# Altium integrated library Cypress USB Full-Speed.IntLib: 14 symbols
Pins are listed as number, name and electrical type; pins without a type are passive.

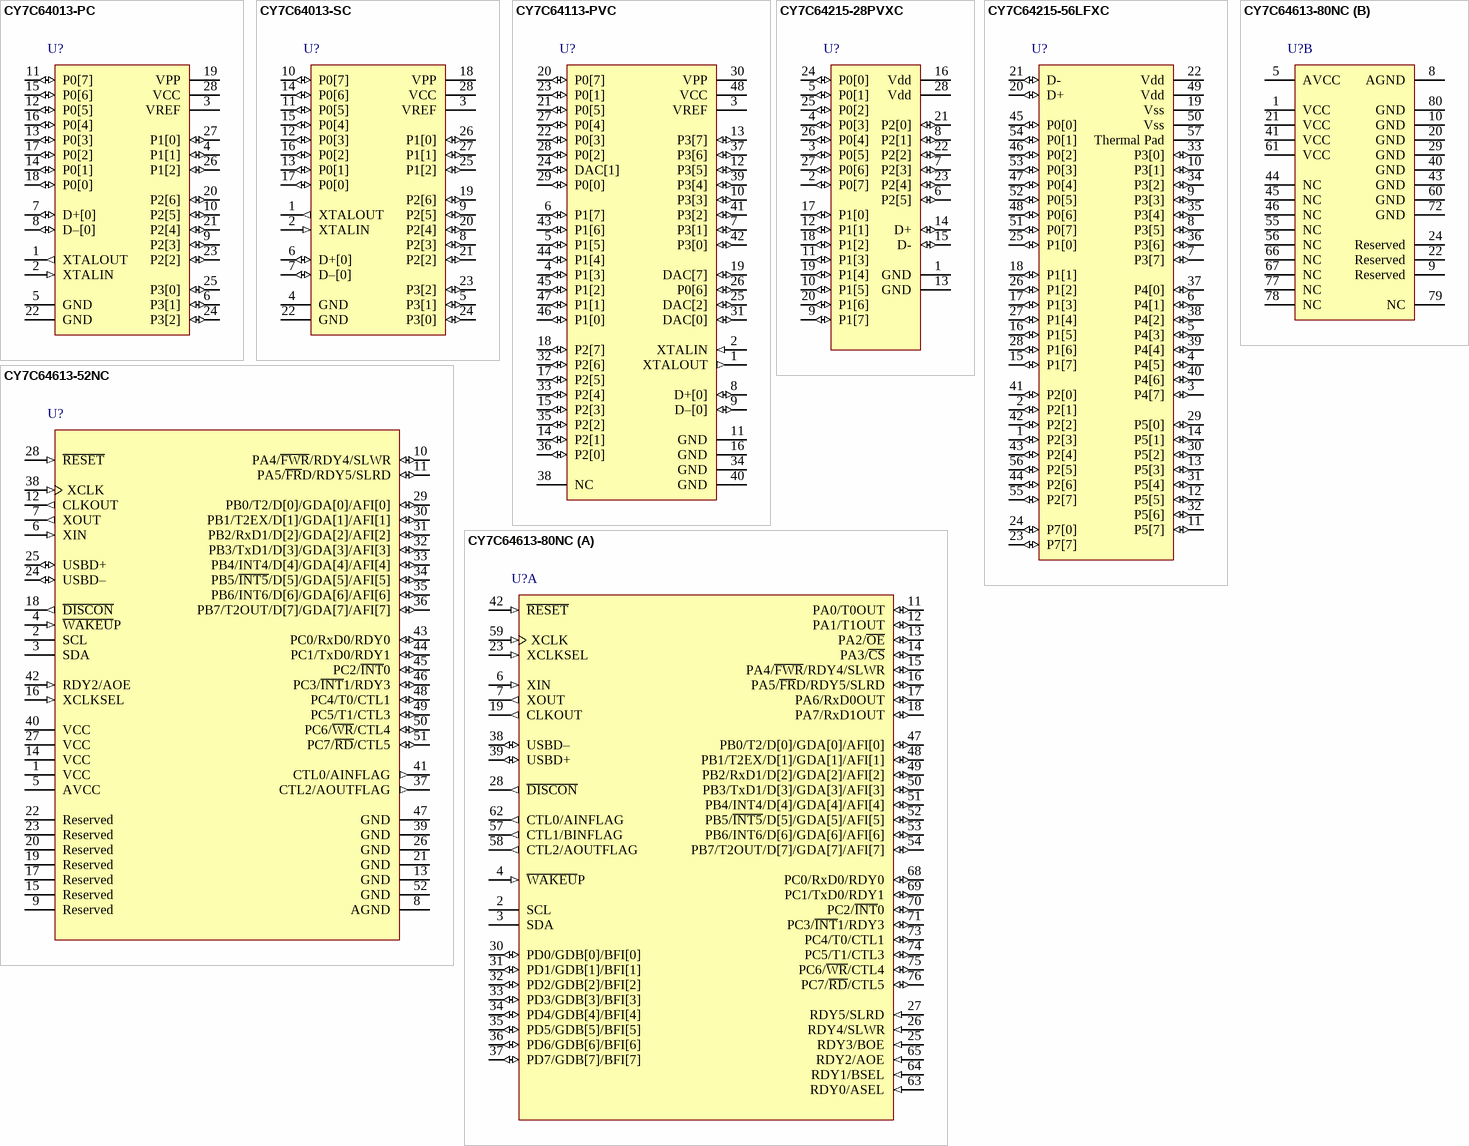
[diagram p0: symbols CY7C64013-PC to CY7C64613-80NC]

## CY7C64013-PC
designator U?
8-Bit One Time Programmable Microcontrollers for Full Speed USB, 8KB PROM, 28-Pin PDIP, Commercial Grade; Published: 16-Dec-2005; DatasheetVersion: rev.A, Jan-2004; PackageVersion: Jul-2000; PackageReference: P21; Publisher: Altium Limited; PackageDescription: DIP, Molded; 28 Leads; Row Spacing 7.62 mm; Pitch 2.54 mm; ComponentLink1Description: Manufacturer Link; ComponentLink1URL: http://www.cypress.com/portal/server.pt; ComponentLink2Description: Datasheet; ComponentLink2URL: http://www.cypress.com/portal/server.pt/gateway/PTARGS_0_2_1524_209_259_43/http%3B/sjapp20.mis.cypress.com%3B7001/publishedcontent/publish/design_resources/datasheets/contents/cy7c64013a_5.pdf
footprint P21 (DIP, Molded; 28 Leads; Row Spacing 7.62 mm; Pitch 2.54 mm)
pins: 1 XTALOUT (out), 2 XTALIN (in), 3 VREF (power), 4 P1[1] (io) "Port 1", 5 GND (power), 6 P3[1] (io) "Port 3", 7 D+[0] (io), 8 D–[0] (io), 9 P2[3] (io) "Port 2", 10 P2[5] (io) "Port 2", 11 P0[7] (io) "Port 0", 12 P0[5] (io) "Port 0", 13 P0[3] (io) "Port 0", 14 P0[1] (io) "Port 0", 15 P0[6] (io) "Port 0", 16 P0[4] (io) "Port 0", 17 P0[2] (io) "Port 0", 18 P0[0] (io) "Port 0", 19 VPP (power), 20 P2[6] (io) "Port 2", 21 P2[4] (io) "Port 2", 22 GND (power), 23 P2[2] (io) "Port 2", 24 P3[2] (io) "Port 3", 25 P3[0] (io) "Port 3", 26 P1[2] (io) "Port 1", 27 P1[0] (io) "Port 1", 28 VCC (power)

## CY7C64013-SC
designator U?
8-Bit One Time Programmable Microcontrollers for Full Speed USB, 8KB PROM, 28-Pin SOIC, Commercial Grade; Published: 16-Dec-2005; LatestRevisionDate: 13-Apr-2006; LatestRevisionNote: IPC-7351 Footprint Added.; DatasheetVersion: rev.A, Jan-2004; PackageVersion: Apr-1999; PackageReference: S21; Publisher: Altium Limited; PackageDescription: 28-Pin Molded Small Outline Integrated Circuit 1.27 mm Pitch; ComponentLink1Description: Manufacturer Link; ComponentLink1URL: http://www.cypress.com/portal/server.pt; ComponentLink2Description: Datasheet; ComponentLink2URL: http://www.cypress.com/portal/server.pt/gateway/PTARGS_0_2_1524_209_259_43/http%3B/sjapp20.mis.cypress.com%3B7001/publishedcontent/publish/design_resources/datasheets/contents/cy7c64013a_5.pdf
footprint S21_N (SOIC, 28-Leads, Body 17.9x7.5mm, Pitch 1.27mm, IPC Medium Density)
footprint S21_L (SOIC, 28-Leads, Body 17.9x7.5mm, Pitch 1.27mm, IPC High Density)
footprint S21_M (SOIC, 28-Leads, Body 17.9x7.5mm, Pitch 1.27mm, IPC Low Density)
pins: 1 XTALOUT (out), 2 XTALIN (in), 3 VREF (power), 4 GND (power), 5 P3[1] (io) "Port 3", 6 D+[0] (io), 7 D–[0] (io), 8 P2[3] (io) "Port 2", 9 P2[5] (io) "Port 2", 10 P0[7] (io) "Port 0", 11 P0[5] (io) "Port 0", 12 P0[3] (io) "Port 0", 13 P0[1] (io) "Port 0", 14 P0[6] (io) "Port 0", 15 P0[4] (io) "Port 0", 16 P0[2] (io) "Port 0", 17 P0[0] (io) "Port 0", 18 VPP (power), 19 P2[6] (io) "Port 2", 20 P2[4] (io) "Port 2", 21 P2[2] (io) "Port 2", 22 GND (power), 23 P3[2] (io) "Port 3", 24 P3[0] (io) "Port 3", 25 P1[2] (io) "Port 1", 26 P1[0] (io) "Port 1", 27 P1[1] (io) "Port 1", 28 VCC (power)

## CY7C64113-PVC
designator U?
8-Bit One Time Programmable Microcontrollers for Full Speed USB, 8KB PROM, 48-Pin SSOP, Commercial Grade; Published: 16-Dec-2005; DatasheetVersion: rev.A, Jan-2004; PackageVersion: Mar-2005; PackageReference: O48; Publisher: Altium Limited; PackageDescription: SSOP; 48 Leads; Body Width 7.5 mm; Pitch 0.635 mm; Code_JEDEC: MO-118-AA; Code_IPC: SSO48; ComponentLink1Description: Manufacturer Link; ComponentLink1URL: http://www.cypress.com/portal/server.pt; ComponentLink2Description: Datasheet; ComponentLink2URL: http://www.cypress.com/portal/server.pt/gateway/PTARGS_0_2_1524_209_259_43/http%3B/sjapp20.mis.cypress.com%3B7001/publishedcontent/publish/design_resources/datasheets/contents/cy7c64113a_5.pdf
footprint O48 (SSOP; 48 Leads; Body Width 7.5 mm; Pitch 0.635 mm)
pins: 1 XTALOUT (out), 2 XTALIN (in), 3 VREF (power), 4 P1[3] (io), 5 P1[5] (io), 6 P1[7] (io), 7 P3[1] (io), 8 D+[0] (io), 9 D–[0] (io), 10 P3[3] (io), 11 GND (power), 12 P3[5] (io), 13 P3[7] (io), 14 P2[1] (io), 15 P2[3] (io), 16 GND (power), 17 P2[5] (io), 18 P2[7] (io), 19 DAC[7] (io), 20 P0[7] (io), 21 P0[5] (io), 22 P0[3] (io), 23 P0[1] (io), 24 DAC[1] (io), 25 DAC[2] (io), 26 P0[6] (io), 27 P0[4] (io), 28 P0[2] (io), 29 P0[0] (io), 30 VPP (power), 31 DAC[0] (io), 32 P2[6] (io), 33 P2[4] (io), 34 GND (power), 35 P2[2] (io), 36 P2[0] (io), 37 P3[6] (io), 38 NC, 39 P3[4] (io), 40 GND (power), 41 P3[2] (io), 42 P3[0] (io), 43 P1[6] (io), 44 P1[4] (io), 45 P1[2] (io), 46 P1[0] (io), 47 P1[1] (io), 48 VCC (power)

## CY7C64215-28PVXC
designator U?
EnCoRe III Full Speed USB Controller, 1KB SRAM, 28-Pin SSOP; Published: 16-Dec-2005; DatasheetVersion: rev.A, Sep-2005; PackageVersion: Mar-2005; PackageReference: O28; Publisher: Altium Limited; PackageDescription: SSOP; 28 Leads; Body Width 5.3 mm; Pitch 0.65 mm; ComponentLink1Description: Manufacturer Link; ComponentLink1URL: http://www.cypress.com/portal/server.pt/gateway/PTARGS_0_2_1524_209_259_43/http%3B/sjapp20.mis.cypress.com%3B7001/publishedcontent/publish/design_resources/datasheets/contents/cy7c64215_5.pdf; ComponentLink2Description: Datasheet; ComponentLink2URL: http://www.cypress.com/portal/server.pt/gateway/PTARGS_0_2_1524_209_259_43/http%3B/sjapp20.mis.cypress.com%3B7001/publishedcontent/publish/design_resources/datasheets/contents/cy7c68013a_5.pdf
footprint O28 (SSOP; 28 Leads; Body Width 5.3 mm; Pitch 0.65 mm)
pins: 1 GND (power), 2 P0[7] (io), 3 P0[5] (io), 4 P0[3] (io), 5 P0[1] (io), 6 P2[5] (io), 7 P2[3] (io), 8 P2[1] (io), 9 P1[7] (io), 10 P1[5] (io), 11 P1[3] (io), 12 P1[1] (io), 13 GND (power), 14 D+ (io), 15 D- (io), 16 Vdd (power), 17 P1[0] (io), 18 P1[2] (io), 19 P1[4] (io), 20 P1[6] (io), 21 P2[0] (io), 22 P2[2] (io), 23 P2[4] (io), 24 P0[0] (io), 25 P0[2] (io), 26 P0[4] (io), 27 P0[6] (io), 28 Vdd (power)

## CY7C64215-56LFXC
designator U?
EnCoRe III Full Speed USB Controller, 1KB SRAM, 56-Pin MLF; Published: 16-Dec-2005; LatestRevisionDate: 13-Apr-2006; LatestRevisionNote: IPC-7351 Footprint Added.; DatasheetVersion: rev.A, Sep-2005; PackageVersion: Sep-2005; PackageReference: MLF56; Publisher: Altium Limited; PackageDescription: 56-Pin Punch Version Quad Flat No-Lead 0.5 mm Pitch; ComponentLink1Description: Manufacturer Link; ComponentLink1URL: http://www.cypress.com/portal/server.pt/gateway/PTARGS_0_2_1524_209_259_43/http%3B/sjapp20.mis.cypress.com%3B7001/publishedcontent/publish/design_resources/datasheets/contents/cy7c64215_5.pdf; ComponentLink2Description: Datasheet; ComponentLink2URL: http://www.cypress.com/portal/server.pt/gateway/PTARGS_0_2_1524_209_259_43/http%3B/sjapp20.mis.cypress.com%3B7001/publishedcontent/publish/design_resources/datasheets/contents/cy7c68016a_5.pdf
footprint MLF56_N (QFN, 56-Leads, Body 8x8mm, Pitch 0.5mm, IPC Medium Density)
footprint MLF56_L (QFN, 56-Leads, Body 8x8mm, Pitch 0.5mm, IPC High Density)
footprint MLF56_M (QFN, 56-Leads, Body 8x8mm, Pitch 0.5mm, IPC Low Density)
pins: 1 P2[3] (io), 2 P2[1] (io), 3 P4[7] (io), 4 P4[5] (io), 5 P4[3] (io), 6 P4[1] (io), 7 P3[7] (io), 8 P3[5] (io), 9 P3[3] (io), 10 P3[1] (io), 11 P5[7] (io), 12 P5[5] (io), 13 P5[3] (io), 14 P5[1] (io), 15 P1[7] (io), 16 P1[5] (io), 17 P1[3] (io), 18 P1[1] (io), 19 Vss (power), 20 D+ (io), 21 D- (io), 22 Vdd (power), 23 P7[7] (io), 24 P7[0] (io), 25 P1[0] (io), 26 P1[2] (io), 27 P1[4] (io), 28 P1[6] (io), 29 P5[0] (io), 30 P5[2] (io), 31 P5[4] (io), 32 P5[6] (io), 33 P3[0] (io), 34 P3[2] (io), 35 P3[4] (io), 36 P3[6] (io), 37 P4[0] (io), 38 P4[2] (io), 39 P4[4] (io), 40 P4[6] (io), 41 P2[0] (io), 42 P2[2] (io), 43 P2[4] (io), 44 P2[6] (io), 45 P0[0] (io), 46 P0[2] (io), 47 P0[4] (io), 48 P0[6] (io), 49 Vdd (power), 50 Vss (power), 51 P0[7] (io), 52 P0[5] (io), 53 P0[3] (io), 54 P0[1] (io), 55 P2[7] (io), 56 P2[5] (io), 57 Thermal Pad (power)

## CY7C64613-52NC
designator U?
EZ-USB FX USB Microcontroller, Isochronous Support, 8K RAM, 16 I/Os, 52-Pin PQFP; Published: 16-Dec-2005; LatestRevisionDate: 13-Apr-2006; LatestRevisionNote: IPC-7351 Footprint Added.; DatasheetVersion: rev.B, Apr-2003; PackageVersion: Mar-1997; PackageReference: N52; Publisher: Altium Limited; PackageDescription: 52-Pin Plastic Quad Flat Pack 0.65 mm Pitch; Code_IPC: QFP65P1320X1320-52; ComponentLink1Description: Manufacturer Link; ComponentLink1URL: http://www.cypress.com/portal/server.pt/gateway/PTARGS_0_2_1524_209_259_43/http%3B/sjapp20.mis.cypress.com%3B7001/publishedcontent/publish/design_resources/datasheets/contents/cy7c646xx_5.pdf; ComponentLink2Description: Datasheet; ComponentLink2URL: http://www.cypress.com/portal/server.pt/gateway/PTARGS_0_2_1524_209_259_43/http%3B/sjapp20.mis.cypress.com%3B7001/publishedcontent/publish/design_resources/datasheets/contents/cy7c68001_5.pdf
footprint N52_N (QFP, 52-Leads, Body 10 x 10mm, Pitch 0.65mm, IPC Medium Density)
footprint N52_L (QFP, 52-Leads, Body 10 x 10mm, Pitch 0.65mm, IPC High Density)
footprint N52_M (QFP, 52-Leads, Body 10 x 10mm, Pitch 0.65mm, IPC Low Density)
pins: 1 VCC (power), 2 SCL (oc), 3 SDA (oc), 4 ~{WAKEU}P (in), 5 AVCC (power), 6 XIN (in), 7 XOUT (out), 8 AGND (power), 9 Reserved, 10 PA4/~{FWR}/RDY4/SLWR (io), 11 PA5/~{FR}D/RDY5/SLRD (io), 12 CLKOUT (out), 13 GND (power), 14 VCC (power), 15 Reserved, 16 XCLKSEL (in), 17 Reserved, 18 ~{DISCON} (out), 19 Reserved, 20 Reserved, 21 GND (power), 22 Reserved, 23 Reserved, 24 USBD– (io), 25 USBD+ (io), 26 GND (power), 27 VCC (power), 28 ~{RESET} (in), 29 PB0/T2/D[0]/GDA[0]/AFI[0] (io), 30 PB1/T2EX/D[1]/GDA[1]/AFI[1] (io), 31 PB2/RxD1/D[2]/GDA[2]/AFI[2] (io), 32 PB3/TxD1/D[3]/GDA[3]/AFI[3] (io), 33 PB4/INT4/D[4]/GDA[4]/AFI[4] (io), 34 PB5/~{INT5}/D[5]/GDA[5]/AFI[5] (io), 35 PB6/INT6/D[6]/GDA[6]/AFI[6] (io), 36 PB7/T2OUT/D[7]/GDA[7]/AFI[7] (io), 37 CTL2/AOUTFLAG (out), 38 XCLK (in), 39 GND (power), 40 VCC (power), 41 CTL0/AINFLAG (out), 42 RDY2/AOE (in), 43 PC0/RxD0/RDY0 (io), 44 PC1/TxD0/RDY1 (io), 45 PC2/~{INT}0 (io), 46 PC3/~{INT}1/RDY3 (io), 47 GND (power), 48 PC4/T0/CTL1 (io), 49 PC5/T1/CTL3 (io), 50 PC6/~{WR}/CTL4 (io), 51 PC7/~{RD}/CTL5 (io), 52 GND (power)

## CY7C64613-80NC
designator U?
EZ-USB FX USB Microcontroller, Isochronous Support, 8K RAM, 32 I/Os, 80-Pin PQFP; Published: 16-Dec-2005; LatestRevisionDate: 13-Apr-2006; LatestRevisionNote: IPC-7351 Footprint Added.; DatasheetVersion: rev.B, Apr-2003; PackageVersion: Apr-2003; PackageReference: N80A; Publisher: Altium Limited; PackageDescription: 80-Pin Plastic Quad Flat Pack 0.65 mm Pitch; Code_JEDEC: MO-112-BF-1; ComponentLink1Description: Manufacturer Link; ComponentLink1URL: http://www.cypress.com/portal/server.pt/gateway/PTARGS_0_2_1524_209_259_43/http%3B/sjapp20.mis.cypress.com%3B7001/publishedcontent/publish/design_resources/datasheets/contents/cy7c646xx_5.pdf; ComponentLink2Description: Datasheet; ComponentLink2URL: http://www.cypress.com/portal/server.pt/gateway/PTARGS_0_2_1524_209_259_43/http%3B/sjapp20.mis.cypress.com%3B7001/publishedcontent/publish/design_resources/datasheets/contents/cy7c68014a_5.pdf
footprint N80A_N (QFP, 80-Leads, Body 14 x 14mm, Pitch 0.65mm, IPC Medium Density)
footprint N80A_L (QFP, 80-Leads, Body 14 x 14mm, Pitch 0.65mm, IPC High Density)
footprint N80A_M (QFP, 80-Leads, Body 14 x 14mm, Pitch 0.65mm, IPC Low Density)
part A pins: 2 SCL (oc), 3 SDA (oc), 4 ~{WAKEU}P (in), 6 XIN (in), 7 XOUT (out), 11 PA0/T0OUT (io), 12 PA1/T1OUT (io), 13 PA2/~{OE} (io), 14 PA3/~{CS} (io), 15 PA4/~{FW}~{R}/RDY4/SLWR (io), 16 PA5/~{FR}D/RDY5/SLRD (io), 17 PA6/RxD0OUT (io), 18 PA7/RxD1OUT (io), 19 CLKOUT (out), 23 XCLKSEL (in), 25 RDY3/BOE (in), 26 RDY4/SLWR (in), 27 RDY5/SLRD (in), 28 ~{DISCON} (out), 30 PD0/GDB[0]/BFI[0] (io), 31 PD1/GDB[1]/BFI[1] (io), 32 PD2/GDB[2]/BFI[2] (io), 33 PD3/GDB[3]/BFI[3] (io), 34 PD4/GDB[4]/BFI[4] (io), 35 PD5/GDB[5]/BFI[5] (io), 36 PD6/GDB[6]/BFI[6] (io), 37 PD7/GDB[7]/BFI[7] (io), 38 USBD– (io), 39 USBD+ (io), 42 ~{RESET} (in), 47 PB0/T2/D[0]/GDA[0]/AFI[0] (io), 48 PB1/T2EX/D[1]/GDA[1]/AFI[1] (io), 49 PB2/RxD1/D[2]/GDA[2]/AFI[2] (io), 50 PB3/TxD1/D[3]/GDA[3]/AFI[3] (io), 51 PB4/INT4/D[4]/GDA[4]/AFI[4] (io), 52 PB5/~{INT5}/D[5]/GDA[5]/AFI[5] (io), 53 PB6/INT6/D[6]/GDA[6]/AFI[6] (io), 54 PB7/T2OUT/D[7]/GDA[7]/AFI[7] (io), 57 CTL1/BINFLAG (out), 58 CTL2/AOUTFLAG (out), 59 XCLK (in), 62 CTL0/AINFLAG (out), 63 RDY0/ASEL (in), 64 RDY1/BSEL (in), 65 RDY2/AOE (in), 68 PC0/RxD0/RDY0 (io), 69 PC1/TxD0/RDY1 (io), 70 PC2/~{INT}0 (io), 71 PC3/~{INT}1/RDY3 (io), 73 PC4/T0/CTL1 (io), 74 PC5/T1/CTL3 (io), 75 PC6/~{WR}/CTL4 (io), 76 PC7/~{RD}/CTL5 (io)
part B pins: 1 VCC (power), 5 AVCC (power), 8 AGND (power), 9 Reserved, 10 GND (power), 20 GND (power), 21 VCC (power), 22 Reserved, 24 Reserved, 29 GND (power), 40 GND (power), 41 VCC (power), 43 GND (power), 44 NC, 45 NC, 46 NC, 55 NC, 56 NC, 60 GND (power), 61 VCC (power), 66 NC, 67 NC, 72 GND (power), 77 NC, 78 NC, 79 NC, 80 GND (power)

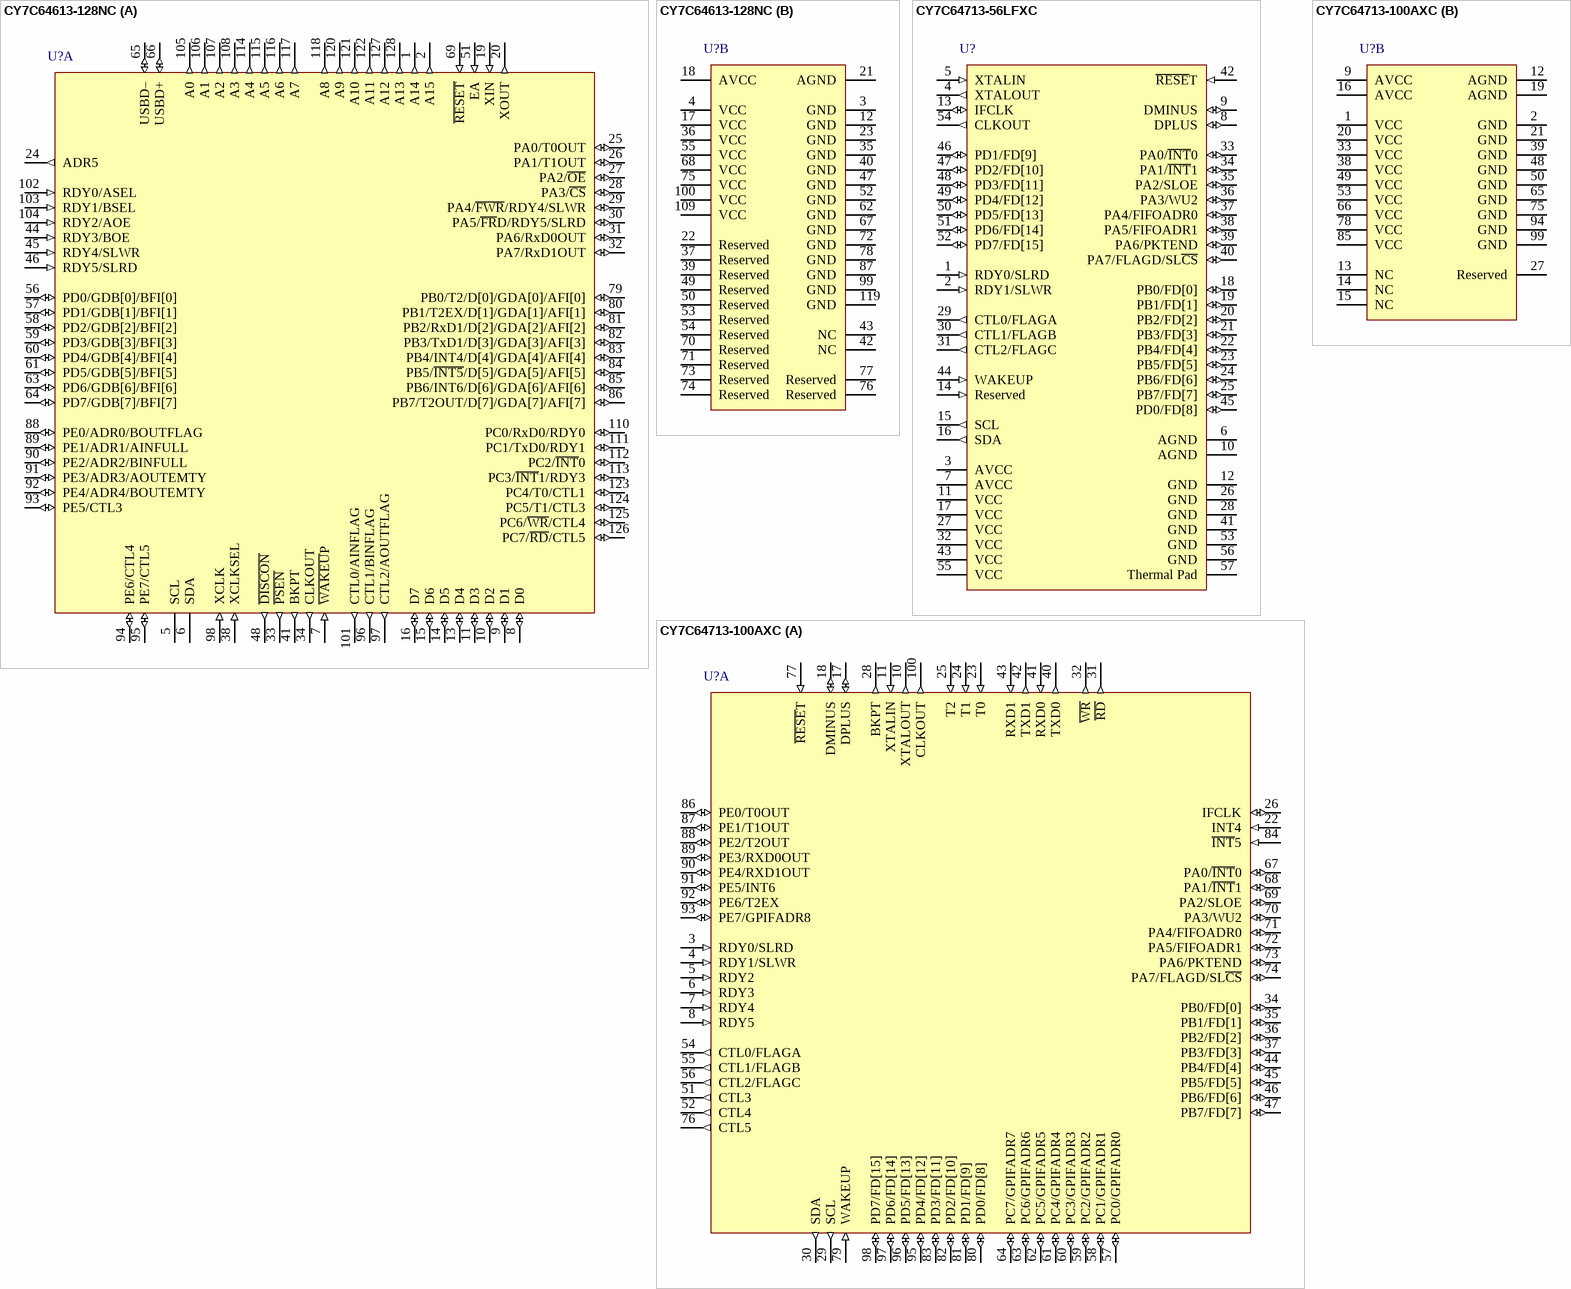
[diagram p1: symbols CY7C64613-128NC to CY7C64713-100AXC]

## CY7C64613-128NC
designator U?
EZ-USB FX USB Microcontroller, Isochronous Support, 8K RAM, 40 I/Os, 128-Pin PQFP; Published: 16-Dec-2005; LatestRevisionDate: 13-Apr-2006; LatestRevisionNote: IPC-7351 Footprint Added.; DatasheetVersion: rev.B, Apr-2003; PackageVersion: Jun-1997; PackageReference: N128; Publisher: Altium Limited; PackageDescription: 128-Pin Plastic Shrink Quad Flat Pack Rectangular 0.5 mm Pitch; ComponentLink1Description: Manufacturer Link; ComponentLink1URL: http://www.cypress.com/portal/server.pt/gateway/PTARGS_0_2_1524_209_259_43/http%3B/sjapp20.mis.cypress.com%3B7001/publishedcontent/publish/design_resources/datasheets/contents/cy7c646xx_5.pdf; ComponentLink2Description: Datasheet; ComponentLink2URL: http://www.cypress.com/portal/server.pt/gateway/PTARGS_0_2_1524_209_259_43/http%3B/sjapp20.mis.cypress.com%3B7001/publishedcontent/publish/design_resources/datasheets/contents/cy7c68014a_5.pdf
footprint N128_N (Shrink QFP, 128-Leads, Body 20x14 mm, Pitch 0.5mm, IPC Medium Density)
footprint N128_L (Shrink QFP, 128-Leads, Body 20x14 mm, Pitch 0.5mm, IPC High Density)
footprint N128_M (Shrink QFP, 128-Leads, Body 20x14 mm, Pitch 0.5mm, IPC Low Density)
part A pins: 1 A14 (out), 2 A15 (out), 5 SCL (oc), 6 SDA (oc), 7 ~{WAKEU}P (in), 8 D0 (io), 9 D1 (io), 10 D2 (io), 11 D3 (io), 13 D4 (io), 14 D5 (io), 15 D6 (io), 16 D7 (io), 19 XIN (in), 20 XOUT (out), 24 ADR5 (out), 25 PA0/T0OUT (io), 26 PA1/T1OUT (io) "Port A", 27 PA2/~{OE} (io) "Port A", 28 PA3/~{CS} (io) "Port A", 29 PA4/~{FWR}/RDY4/SLWR (io) "Port A", 30 PA5/~{FR}D/RDY5/SLRD (io) "Port A", 31 PA6/RxD0OUT (io) "Port A", 32 PA7/RxD1OUT (io) "Port A", 33 ~{PSEN} (out), 34 CLKOUT (out), 38 XCLKSEL (in), 41 BKPT (out), 44 RDY3/BOE (in), 45 RDY4/SLWR (in), 46 RDY5/SLRD (in), 48 ~{DISCON} (out), 51 EA (in), 56 PD0/GDB[0]/BFI[0] (io) "Port D", 57 PD1/GDB[1]/BFI[1] (io) "Port D", 58 PD2/GDB[2]/BFI[2] (io) "Port D", 59 PD3/GDB[3]/BFI[3] (io) "Port D", 60 PD4/GDB[4]/BFI[4] (io) "Port D", 61 PD5/GDB[5]/BFI[5] (io) "Port D", 63 PD6/GDB[6]/BFI[6] (io) "Port D", 64 PD7/GDB[7]/BFI[7] (io) "Port D", 65 USBD– (io), 66 USBD+ (io), 69 ~{RESET} (in), 79 PB0/T2/D[0]/GDA[0]/AFI[0] (io) "Port B", 80 PB1/T2EX/D[1]/GDA[1]/AFI[1] (io) "Port B", 81 PB2/RxD1/D[2]/GDA[2]/AFI[2] (io) "Port B", 82 PB3/TxD1/D[3]/GDA[3]/AFI[3] (io) "Port B", 83 PB4/INT4/D[4]/GDA[4]/AFI[4] (io) "Port B", 84 PB5/~{INT5}/D[5]/GDA[5]/AFI[5] (io) "Port B", 85 PB6/INT6/D[6]/GDA[6]/AFI[6] (io) "Port B", 86 PB7/T2OUT/D[7]/GDA[7]/AFI[7] (io) "Port B", 88 PE0/ADR0/BOUTFLAG (io) "Port E", 89 PE1/ADR1/AINFULL (io) "Port E", 90 PE2/ADR2/BINFULL (io) "Port E", 91 PE3/ADR3/AOUTEMTY (io) "Port E", 92 PE4/ADR4/BOUTEMTY (io) "Port E", 93 PE5/CTL3 (io) "Port E", 94 PE6/CTL4 (io) "Port E", 95 PE7/CTL5 (io) "Port E", 96 CTL1/BINFLAG (out), 97 CTL2/AOUTFLAG (out), 98 XCLK (in), 101 CTL0/AINFLAG (out), 102 RDY0/ASEL (in), 103 RDY1/BSEL (in), 104 RDY2/AOE (in), 105 A0 (out), 106 A1 (out), 107 A2 (out), 108 A3 (out), 110 PC0/RxD0/RDY0 (io) "Port C", 111 PC1/TxD0/RDY1 (io) "Port C", 112 PC2/~{INT}0 (io) "Port C", 113 PC3/~{INT}1/RDY3 (io) "Port C", 114 A4 (out), 115 A5 (out), 116 A6 (out), 117 A7 (out), 118 A8 (out), 120 A9 (out), 121 A10 (out), 122 A11 (out), 123 PC4/T0/CTL1 (io) "Port C", 124 PC5/T1/CTL3 (io) "Port C", 125 PC6/~{WR}/CTL4 (io) "Port C", 126 PC7/~{RD}/CTL5 (io) "Port C", 127 A12 (out), 128 A13 (out)
part B pins: 3 GND (power), 4 VCC (power), 12 GND (power), 17 VCC (power), 18 AVCC (power), 21 AGND (power), 22 Reserved, 23 GND (power), 35 GND (power), 36 VCC (power), 37 Reserved, 39 Reserved, 40 GND (power), 42 NC, 43 NC, 47 GND (power), 49 Reserved, 50 Reserved, 52 GND (power), 53 Reserved, 54 Reserved, 55 VCC (power), 62 GND (power), 67 GND (power), 68 VCC (power), 70 Reserved, 71 Reserved, 72 GND (power), 73 Reserved, 74 Reserved, 75 VCC (power), 76 Reserved, 77 Reserved, 78 GND (power), 87 GND (power), 99 GND (power), 100 VCC (power), 109 VCC (power), 119 GND (power)

## CY7C64713-56LFXC
designator U?
EZ-USB FX1 USB Microcontroller Ideal for Non-Battery Powered Application, 16K RAM, 24 I/Os, 56-Pin QFN, Pb-Free; Published: 16-Dec-2005; LatestRevisionDate: 13-Apr-2006; LatestRevisionNote: IPC-7351 Footprint Added.; DatasheetVersion: rev.C, Aug-2005; PackageVersion: May-2003; PackageReference: LF56A; Publisher: Altium Limited; PackageDescription: 56-Pin Punch Version Quad Flat No-Lead 0.5 mm Pitch; Code_JEDEC: MO-220; ComponentLink1Description: Manufacturer Link; ComponentLink1URL: http://www.cypress.com/portal/server.pt; ComponentLink2Description: Datasheet; ComponentLink2URL: http://www.cypress.com/portal/server.pt/gateway/PTARGS_0_2_1524_209_259_43/http%3B/sjapp20.mis.cypress.com%3B7001/publishedcontent/publish/design_resources/datasheets/contents/cy7c64713_5.pdf
footprint LF56A_N (QFN, 56-Leads, Body 8x8mm, Pitch 0.5mm, IPC Medium Density)
footprint LF56A_L (QFN, 56-Leads, Body 8x8mm, Pitch 0.5mm, IPC High Density)
footprint LF56A_M (QFN, 56-Leads, Body 8x8mm, Pitch 0.5mm, IPC Low Density)
pins: 1 RDY0/SLRD (in), 2 RDY1/SLWR (in), 3 AVCC (power), 4 XTALOUT (out), 5 XTALIN (in), 6 AGND (power), 7 AVCC (power), 8 DPLUS (io), 9 DMINUS (io), 10 AGND (power), 11 VCC (power), 12 GND (power), 13 IFCLK (io), 14 Reserved (in), 15 SCL (out), 16 SDA (out), 17 VCC (power), 18 PB0/FD[0] (io), 19 PB1/FD[1] (io), 20 PB2/FD[2] (io), 21 PB3/FD[3] (io), 22 PB4/FD[4] (io), 23 PB5/FD[5] (io), 24 PB6/FD[6] (io), 25 PB7/FD[7] (io), 26 GND (power), 27 VCC (power), 28 GND (power), 29 CTL0/FLAGA (out), 30 CTL1/FLAGB (out), 31 CTL2/FLAGC (out), 32 VCC (power), 33 PA0/~{INT}0 (io), 34 PA1/~{INT}1 (io), 35 PA2/SLOE (io), 36 PA3/WU2 (io), 37 PA4/FIFOADR0 (io), 38 PA5/FIFOADR1 (io), 39 PA6/PKTEND (io), 40 PA7/FLAGD/SL~{CS} (io), 41 GND (power), 42 ~{RESE}T (in), 43 VCC (power), 44 WAKEUP (in), 45 PD0/FD[8] (io), 46 PD1/FD[9] (io), 47 PD2/FD[10] (io), 48 PD3/FD[11] (io), 49 PD4/FD[12] (io), 50 PD5/FD[13] (io), 51 PD6/FD[14] (io), 52 PD7/FD[15] (io), 53 GND (power), 54 CLKOUT (out), 55 VCC (power), 56 GND (power), 57 Thermal Pad (power)

## CY7C64713-100AXC
designator U?
EZ-USB FX1 USB Microcontroller Ideal for Non-Battery Powered Application, 16K RAM, 40 I/Os, 100-Pin TQFP, Pb-Free; Published: 16-Dec-2005; LatestRevisionDate: 13-Apr-2006; LatestRevisionNote: IPC-7351 Footprint Added.; DatasheetVersion: rev.C, Aug-2005; PackageVersion: Feb-2005; PackageReference: A101; Publisher: Altium Limited; PackageDescription: 100-Pin Thin Plastic Quad Flat Pack Rectangular 0.65 mm Pitch; ComponentLink1Description: Manufacturer Link; ComponentLink1URL: http://www.cypress.com/portal/server.pt; ComponentLink2Description: Datasheet; ComponentLink2URL: http://www.cypress.com/portal/server.pt/gateway/PTARGS_0_2_1524_209_259_43/http%3B/sjapp20.mis.cypress.com%3B7001/publishedcontent/publish/design_resources/datasheets/contents/cy7c64713_5.pdf
footprint A101_N (Thin QFP, 100-Leads, Body 20x14mm, Pitch 0.65mm, IPC Medium Density)
footprint A101_L (Thin QFP, 100-Leads, Body 20x14mm, Pitch 0.65mm, IPC High Density)
footprint A101_M (Thin QFP, 100-Leads, Body 20x14mm, Pitch 0.65mm, IPC Low Density)
part A pins: 3 RDY0/SLRD (in), 4 RDY1/SLWR (in), 5 RDY2 (in), 6 RDY3 (in), 7 RDY4 (in), 8 RDY5 (in), 10 XTALOUT (out), 11 XTALIN (in), 17 DPLUS (io), 18 DMINUS (io), 22 INT4 (in), 23 T0 (in), 24 T1 (in), 25 T2 (in), 26 IFCLK (io), 28 BKPT (out), 29 SCL (out), 30 SDA (out), 31 ~{RD} (out), 32 ~{WR} (out), 34 PB0/FD[0] (io), 35 PB1/FD[1] (io), 36 PB2/FD[2] (io), 37 PB3/FD[3] (io), 40 TXD0 (out), 41 RXD0 (in), 42 TXD1 (out), 43 RXD1 (in), 44 PB4/FD[4] (io), 45 PB5/FD[5] (io), 46 PB6/FD[6] (io), 47 PB7/FD[7] (io), 51 CTL3 (out), 52 CTL4 (out), 54 CTL0/FLAGA (out), 55 CTL1/FLAGB (out), 56 CTL2/FLAGC (out), 57 PC0/GPIFADR0 (io), 58 PC1/GPIFADR1 (io), 59 PC2/GPIFADR2 (io), 60 PC3/GPIFADR3 (io), 61 PC4/GPIFADR4 (io), 62 PC5/GPIFADR5 (io), 63 PC6/GPIFADR6 (io), 64 PC7/GPIFADR7 (io), 67 PA0/~{INT}0 (io), 68 PA1/~{INT}1 (io), 69 PA2/SLOE (io), 70 PA3/WU2 (io), 71 PA4/FIFOADR0 (io), 72 PA5/FIFOADR1 (io), 73 PA6/PKTEND (io), 74 PA7/FLAGD/SL~{CS} (io), 76 CTL5 (out), 77 ~{RESE}T (in), 79 WAKEUP (in), 80 PD0/FD[8] (io), 81 PD1/FD[9] (io), 82 PD2/FD[10] (io), 83 PD3/FD[11] (io), 84 ~{INT}5 (in), 86 PE0/T0OUT (io), 87 PE1/T1OUT (io), 88 PE2/T2OUT (io), 89 PE3/RXD0OUT (io), 90 PE4/RXD1OUT (io), 91 PE5/INT6 (io), 92 PE6/T2EX (io), 93 PE7/GPIFADR8 (io), 95 PD4/FD[12] (io), 96 PD5/FD[13] (io), 97 PD6/FD[14] (io), 98 PD7/FD[15] (io), 100 CLKOUT (out)
part B pins: 1 VCC (power), 2 GND (power), 9 AVCC (power), 12 AGND (power), 13 NC, 14 NC, 15 NC, 16 AVCC (power), 19 AGND (power), 20 VCC (power), 21 GND (power), 27 Reserved, 33 VCC (power), 38 VCC (power), 39 GND (power), 48 GND (power), 49 VCC (power), 50 GND (power), 53 VCC (power), 65 GND (power), 66 VCC (power), 75 GND (power), 78 VCC (power), 85 VCC (power), 94 GND (power), 99 GND (power)

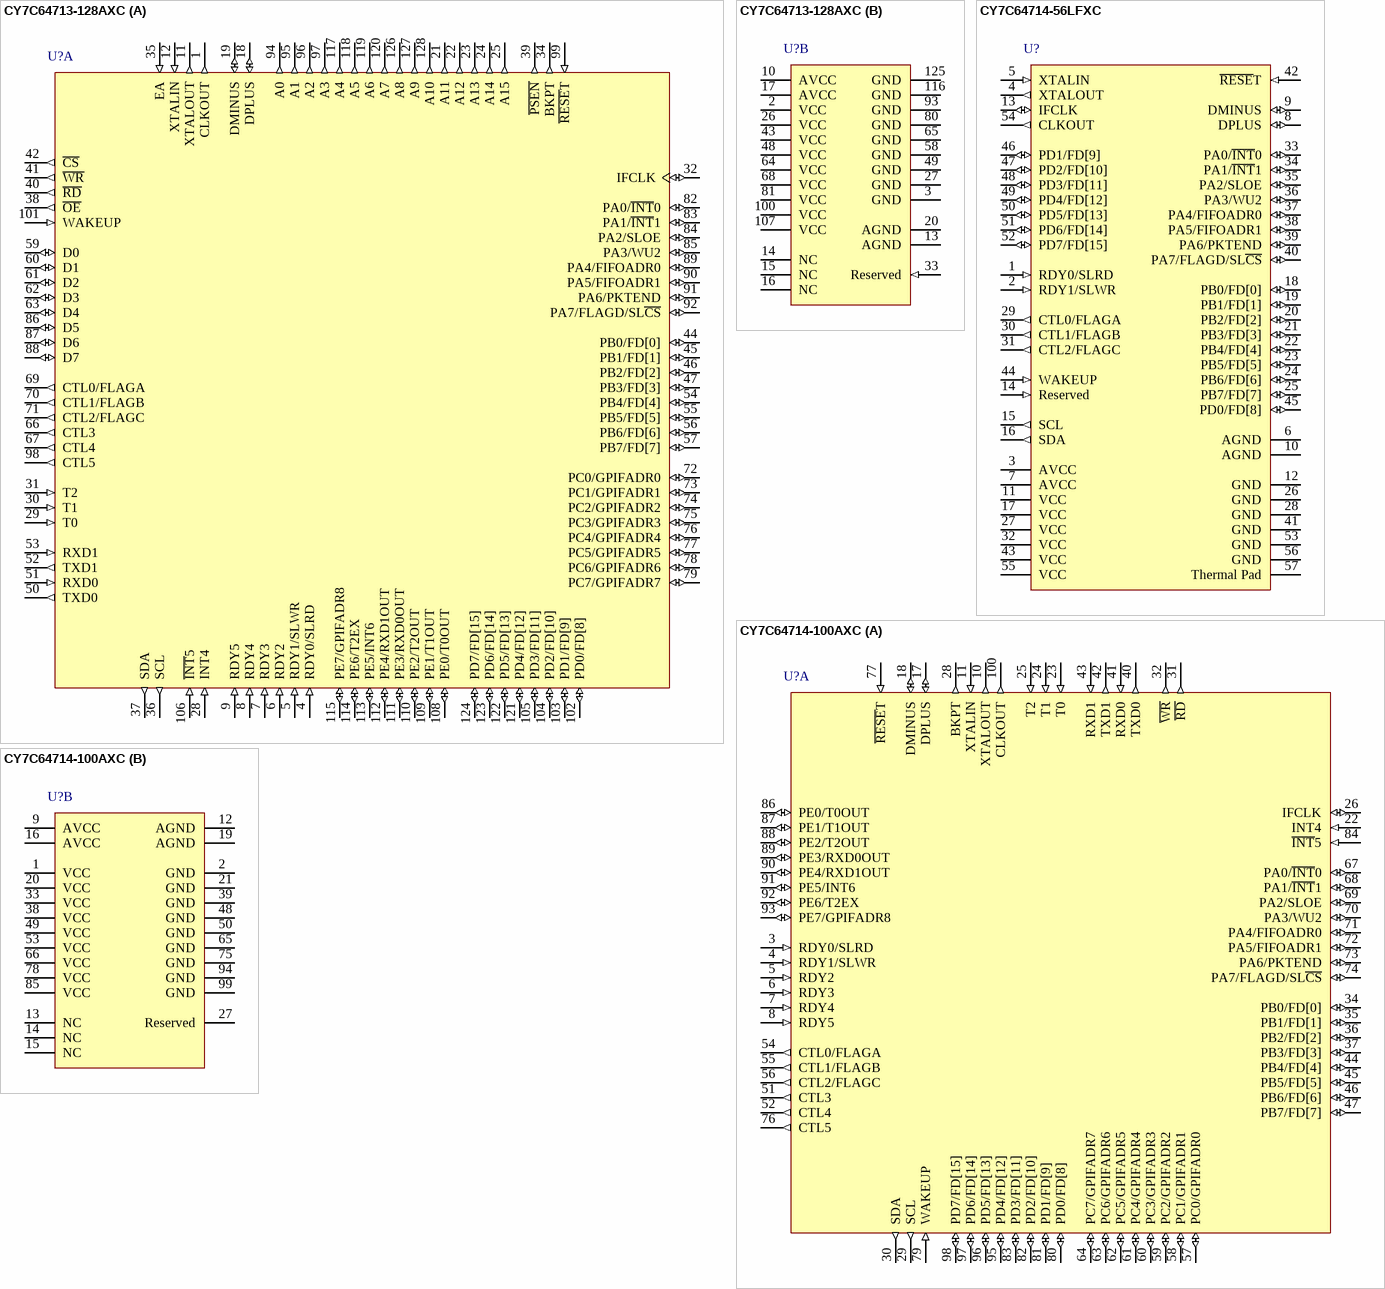
[diagram p2: symbols CY7C64713-128AXC to CY7C64714-100AXC]

## CY7C64713-128AXC
designator U?
EZ-USB FX1 USB Microcontroller Ideal for Non-Battery Powered Application, 16K RAM, 40 I/Os, 128-Pin TQFP, Pb-Free; Published: 16-Dec-2005; LatestRevisionDate: 13-Apr-2006; LatestRevisionNote: IPC-7351 Footprint Added.; DatasheetVersion: rev.C, Aug-2005; PackageVersion: Rev. *C, 19-Dec-2002; PackageReference: A128; Publisher: Altium Limited; PackageDescription: 128-Pin Thin Quad Flat Pack Rectangular 0.5 mm Pitch; ComponentLink1Description: Manufacturer Link; ComponentLink1URL: http://www.cypress.com/portal/server.pt; ComponentLink2Description: Datasheet; ComponentLink2URL: http://www.cypress.com/portal/server.pt/gateway/PTARGS_0_2_1524_209_259_43/http%3B/sjapp20.mis.cypress.com%3B7001/publishedcontent/publish/design_resources/datasheets/contents/cy7c64713_5.pdf
footprint A128_N (Thin QFP, 128-Leads, Body 20x14 mm, Pitch 0.5mm, IPC Medium Density)
footprint A128_L (Thin QFP, 128-Leads, Body 20x14 mm, Pitch 0.5mm, IPC High Density)
footprint A128_M (Thin QFP, 128-Leads, Body 20x14 mm, Pitch 0.5mm, IPC Low Density)
part A pins: 1 CLKOUT (out), 4 RDY0/SLRD (in), 5 RDY1/SLWR (in), 6 RDY2 (in), 7 RDY3 (in), 8 RDY4 (in), 9 RDY5 (in), 11 XTALOUT (out), 12 XTALIN (in), 18 DPLUS (io), 19 DMINUS (io), 21 A11 (out), 22 A12 (out), 23 A13 (out), 24 A14 (out), 25 A15 (out), 28 INT4 (in), 29 T0 (in), 30 T1 (in), 31 T2 (in), 32 IFCLK (io), 34 BKPT (out), 35 EA (in), 36 SCL (out), 37 SDA (out), 38 ~{OE} (out), 39 ~{PSEN} (out), 40 ~{RD} (out), 41 ~{WR} (out), 42 ~{CS} (out), 44 PB0/FD[0] (io), 45 PB1/FD[1] (io), 46 PB2/FD[2] (io), 47 PB3/FD[3] (io), 50 TXD0 (out), 51 RXD0 (in), 52 TXD1 (out), 53 RXD1 (in), 54 PB4/FD[4] (io), 55 PB5/FD[5] (io), 56 PB6/FD[6] (io), 57 PB7/FD[7] (io), 59 D0 (io), 60 D1 (io), 61 D2 (io), 62 D3 (io), 63 D4 (io), 66 CTL3 (out), 67 CTL4 (out), 69 CTL0/FLAGA (out), 70 CTL1/FLAGB (out), 71 CTL2/FLAGC (out), 72 PC0/GPIFADR0 (io), 73 PC1/GPIFADR1 (io), 74 PC2/GPIFADR2 (io), 75 PC3/GPIFADR3 (io), 76 PC4/GPIFADR4 (io), 77 PC5/GPIFADR5 (io), 78 PC6/GPIFADR6 (io), 79 PC7/GPIFADR7 (io), 82 PA0/~{INT}0 (io), 83 PA1/~{INT}1 (io), 84 PA2/SLOE (io), 85 PA3/WU2 (io), 86 D5 (io), 87 D6 (io), 88 D7 (io), 89 PA4/FIFOADR0 (io), 90 PA5/FIFOADR1 (io), 91 PA6/PKTEND (io), 92 PA7/FLAGD/SL~{CS} (io), 94 A0 (out), 95 A1 (out), 96 A2 (out), 97 A3 (out), 98 CTL5 (out), 99 ~{RESE}T (in), 101 WAKEUP (in), 102 PD0/FD[8] (io), 103 PD1/FD[9] (io), 104 PD2/FD[10] (io), 105 PD3/FD[11] (io), 106 ~{INT}5 (in), 108 PE0/T0OUT (io), 109 PE1/T1OUT (io), 110 PE2/T2OUT (io), 111 PE3/RXD0OUT (io), 112 PE4/RXD1OUT (io), 113 PE5/INT6 (io), 114 PE6/T2EX (io), 115 PE7/GPIFADR8 (io), 117 A4 (out), 118 A5 (out), 119 A6 (out), 120 A7 (out), 121 PD4/FD[12] (io), 122 PD5/FD[13] (io), 123 PD6/FD[14] (io), 124 PD7/FD[15] (io), 126 A8 (out), 127 A9 (out), 128 A10 (out)
part B pins: 2 VCC (power), 3 GND (power), 10 AVCC (power), 13 AGND (power), 14 NC, 15 NC, 16 NC, 17 AVCC (power), 20 AGND (power), 26 VCC (power), 27 GND (power), 33 Reserved (in), 43 VCC (power), 48 VCC (power), 49 GND (power), 58 GND (power), 64 VCC (power), 65 GND (power), 68 VCC (power), 80 GND (power), 81 VCC (power), 93 GND (power), 100 VCC (power), 107 VCC (power), 116 GND (power), 125 GND (power)

## CY7C64714-56LFXC
designator U?
EZ-USB FX1 USB Microcontroller Ideal for Battery Powered Application, 16K RAM, 24 I/Os, 56-Pin QFN, Pb-Free; Published: 16-Dec-2005; LatestRevisionDate: 13-Apr-2006; LatestRevisionNote: IPC-7351 Footprint Added.; DatasheetVersion: rev.C, Aug-2005; PackageVersion: May-2003; PackageReference: LF56A; Publisher: Altium Limited; PackageDescription: 56-Pin Punch Version Quad Flat No-Lead 0.5 mm Pitch; Code_JEDEC: MO-220; ComponentLink1Description: Manufacturer Link; ComponentLink1URL: http://www.cypress.com/portal/server.pt; ComponentLink2Description: Datasheet; ComponentLink2URL: http://www.cypress.com/portal/server.pt/gateway/PTARGS_0_2_1524_209_259_43/http%3B/sjapp20.mis.cypress.com%3B7001/publishedcontent/publish/design_resources/datasheets/contents/cy7c64713_5.pdf
footprint LF56A_N (QFN, 56-Leads, Body 8x8mm, Pitch 0.5mm, IPC Medium Density)
footprint LF56A_L (QFN, 56-Leads, Body 8x8mm, Pitch 0.5mm, IPC High Density)
footprint LF56A_M (QFN, 56-Leads, Body 8x8mm, Pitch 0.5mm, IPC Low Density)
pins: 1 RDY0/SLRD (in), 2 RDY1/SLWR (in), 3 AVCC (power), 4 XTALOUT (out), 5 XTALIN (in), 6 AGND (power), 7 AVCC (power), 8 DPLUS (io), 9 DMINUS (io), 10 AGND (power), 11 VCC (power), 12 GND (power), 13 IFCLK (io), 14 Reserved (in), 15 SCL (out), 16 SDA (out), 17 VCC (power), 18 PB0/FD[0] (io), 19 PB1/FD[1] (io), 20 PB2/FD[2] (io), 21 PB3/FD[3] (io), 22 PB4/FD[4] (io), 23 PB5/FD[5] (io), 24 PB6/FD[6] (io), 25 PB7/FD[7] (io), 26 GND (power), 27 VCC (power), 28 GND (power), 29 CTL0/FLAGA (out), 30 CTL1/FLAGB (out), 31 CTL2/FLAGC (out), 32 VCC (power), 33 PA0/~{INT}0 (io), 34 PA1/~{INT}1 (io), 35 PA2/SLOE (io), 36 PA3/WU2 (io), 37 PA4/FIFOADR0 (io), 38 PA5/FIFOADR1 (io), 39 PA6/PKTEND (io), 40 PA7/FLAGD/SL~{CS} (io), 41 GND (power), 42 ~{RESE}T (in), 43 VCC (power), 44 WAKEUP (in), 45 PD0/FD[8] (io), 46 PD1/FD[9] (io), 47 PD2/FD[10] (io), 48 PD3/FD[11] (io), 49 PD4/FD[12] (io), 50 PD5/FD[13] (io), 51 PD6/FD[14] (io), 52 PD7/FD[15] (io), 53 GND (power), 54 CLKOUT (out), 55 VCC (power), 56 GND (power), 57 Thermal Pad (power)

## CY7C64714-100AXC
designator U?
EZ-USB FX1 USB Microcontroller Ideal for Battery Powered Application, 16K RAM, 40 I/Os, 100-Pin TQFP, Pb-Free; Published: 16-Dec-2005; LatestRevisionDate: 13-Apr-2006; LatestRevisionNote: IPC-7351 Footprint Added.; DatasheetVersion: rev.C, Aug-2005; PackageVersion: Feb-2005; PackageReference: A101; Publisher: Altium Limited; PackageDescription: 100-Pin Thin Plastic Quad Flat Pack Rectangular 0.65 mm Pitch; ComponentLink1Description: Manufacturer Link; ComponentLink1URL: http://www.cypress.com/portal/server.pt; ComponentLink2Description: Datasheet; ComponentLink2URL: http://www.cypress.com/portal/server.pt/gateway/PTARGS_0_2_1524_209_259_43/http%3B/sjapp20.mis.cypress.com%3B7001/publishedcontent/publish/design_resources/datasheets/contents/cy7c64713_5.pdf
footprint A101_N (Thin QFP, 100-Leads, Body 20x14mm, Pitch 0.65mm, IPC Medium Density)
footprint A101_L (Thin QFP, 100-Leads, Body 20x14mm, Pitch 0.65mm, IPC High Density)
footprint A101_M (Thin QFP, 100-Leads, Body 20x14mm, Pitch 0.65mm, IPC Low Density)
part A pins: 3 RDY0/SLRD (in), 4 RDY1/SLWR (in), 5 RDY2 (in), 6 RDY3 (in), 7 RDY4 (in), 8 RDY5 (in), 10 XTALOUT (out), 11 XTALIN (in), 17 DPLUS (io), 18 DMINUS (io), 22 INT4 (in), 23 T0 (in), 24 T1 (in), 25 T2 (in), 26 IFCLK (io), 28 BKPT (out), 29 SCL (out), 30 SDA (out), 31 ~{RD} (out), 32 ~{WR} (out), 34 PB0/FD[0] (io), 35 PB1/FD[1] (io), 36 PB2/FD[2] (io), 37 PB3/FD[3] (io), 40 TXD0 (out), 41 RXD0 (in), 42 TXD1 (out), 43 RXD1 (in), 44 PB4/FD[4] (io), 45 PB5/FD[5] (io), 46 PB6/FD[6] (io), 47 PB7/FD[7] (io), 51 CTL3 (out), 52 CTL4 (out), 54 CTL0/FLAGA (out), 55 CTL1/FLAGB (out), 56 CTL2/FLAGC (out), 57 PC0/GPIFADR0 (io), 58 PC1/GPIFADR1 (io), 59 PC2/GPIFADR2 (io), 60 PC3/GPIFADR3 (io), 61 PC4/GPIFADR4 (io), 62 PC5/GPIFADR5 (io), 63 PC6/GPIFADR6 (io), 64 PC7/GPIFADR7 (io), 67 PA0/~{INT}0 (io), 68 PA1/~{INT}1 (io), 69 PA2/SLOE (io), 70 PA3/WU2 (io), 71 PA4/FIFOADR0 (io), 72 PA5/FIFOADR1 (io), 73 PA6/PKTEND (io), 74 PA7/FLAGD/SL~{CS} (io), 76 CTL5 (out), 77 ~{RESE}T (in), 79 WAKEUP (in), 80 PD0/FD[8] (io), 81 PD1/FD[9] (io), 82 PD2/FD[10] (io), 83 PD3/FD[11] (io), 84 ~{INT}5 (in), 86 PE0/T0OUT (io), 87 PE1/T1OUT (io), 88 PE2/T2OUT (io), 89 PE3/RXD0OUT (io), 90 PE4/RXD1OUT (io), 91 PE5/INT6 (io), 92 PE6/T2EX (io), 93 PE7/GPIFADR8 (io), 95 PD4/FD[12] (io), 96 PD5/FD[13] (io), 97 PD6/FD[14] (io), 98 PD7/FD[15] (io), 100 CLKOUT (out)
part B pins: 1 VCC (power), 2 GND (power), 9 AVCC (power), 12 AGND (power), 13 NC, 14 NC, 15 NC, 16 AVCC (power), 19 AGND (power), 20 VCC (power), 21 GND (power), 27 Reserved, 33 VCC (power), 38 VCC (power), 39 GND (power), 48 GND (power), 49 VCC (power), 50 GND (power), 53 VCC (power), 65 GND (power), 66 VCC (power), 75 GND (power), 78 VCC (power), 85 VCC (power), 94 GND (power), 99 GND (power)

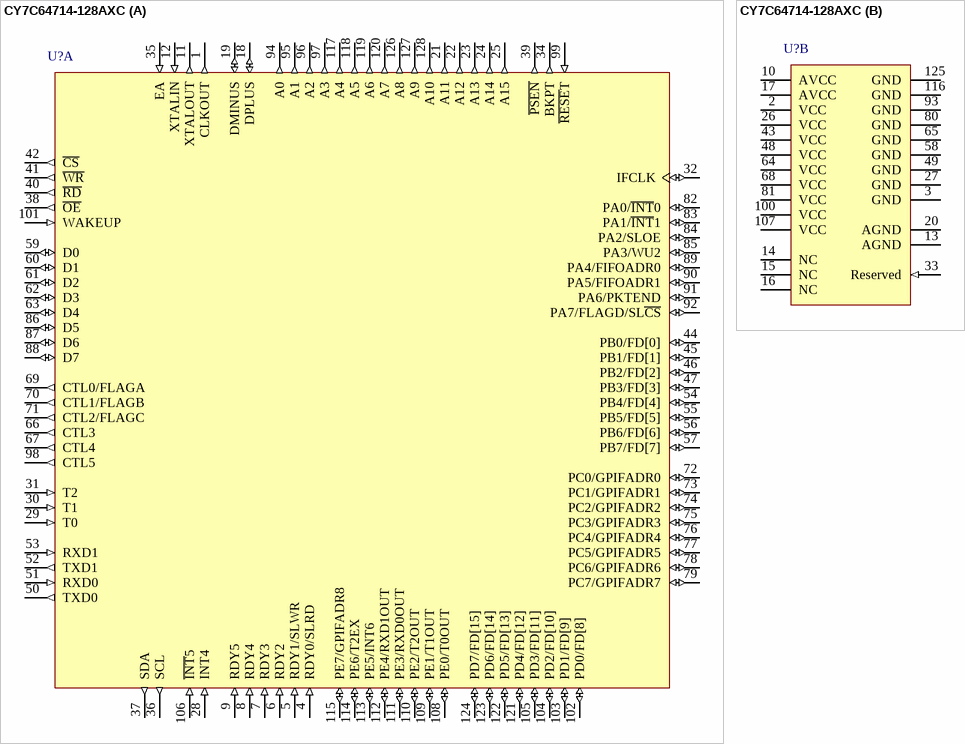
[diagram p3: symbol CY7C64714-128AXC]

## CY7C64714-128AXC
designator U?
EZ-USB FX1 USB Microcontroller Ideal for Battery Powered Application, 16K RAM, 40 I/Os, 128-Pin TQFP, Pb-Free; Published: 16-Dec-2005; LatestRevisionDate: 13-Apr-2006; LatestRevisionNote: IPC-7351 Footprint Added.; DatasheetVersion: rev.C, Aug-2005; PackageVersion: Rev. *C, 19-Dec-2002; PackageReference: A128; Publisher: Altium Limited; PackageDescription: 128-Pin Thin Quad Flat Pack Rectangular 0.5 mm Pitch; ComponentLink1Description: Manufacturer Link; ComponentLink1URL: http://www.cypress.com/portal/server.pt; ComponentLink2Description: Datasheet; ComponentLink2URL: http://www.cypress.com/portal/server.pt/gateway/PTARGS_0_2_1524_209_259_43/http%3B/sjapp20.mis.cypress.com%3B7001/publishedcontent/publish/design_resources/datasheets/contents/cy7c64713_5.pdf
footprint A128_N (Thin QFP, 128-Leads, Body 20x14 mm, Pitch 0.5mm, IPC Medium Density)
footprint A128_L (Thin QFP, 128-Leads, Body 20x14 mm, Pitch 0.5mm, IPC High Density)
footprint A128_M (Thin QFP, 128-Leads, Body 20x14 mm, Pitch 0.5mm, IPC Low Density)
part A pins: 1 CLKOUT (out), 4 RDY0/SLRD (in), 5 RDY1/SLWR (in), 6 RDY2 (in), 7 RDY3 (in), 8 RDY4 (in), 9 RDY5 (in), 11 XTALOUT (out), 12 XTALIN (in), 18 DPLUS (io), 19 DMINUS (io), 21 A11 (out), 22 A12 (out), 23 A13 (out), 24 A14 (out), 25 A15 (out), 28 INT4 (in), 29 T0 (in), 30 T1 (in), 31 T2 (in), 32 IFCLK (io), 34 BKPT (out), 35 EA (in), 36 SCL (out), 37 SDA (out), 38 ~{OE} (out), 39 ~{PSEN} (out), 40 ~{RD} (out), 41 ~{WR} (out), 42 ~{CS} (out), 44 PB0/FD[0] (io), 45 PB1/FD[1] (io), 46 PB2/FD[2] (io), 47 PB3/FD[3] (io), 50 TXD0 (out), 51 RXD0 (in), 52 TXD1 (out), 53 RXD1 (in), 54 PB4/FD[4] (io), 55 PB5/FD[5] (io), 56 PB6/FD[6] (io), 57 PB7/FD[7] (io), 59 D0 (io), 60 D1 (io), 61 D2 (io), 62 D3 (io), 63 D4 (io), 66 CTL3 (out), 67 CTL4 (out), 69 CTL0/FLAGA (out), 70 CTL1/FLAGB (out), 71 CTL2/FLAGC (out), 72 PC0/GPIFADR0 (io), 73 PC1/GPIFADR1 (io), 74 PC2/GPIFADR2 (io), 75 PC3/GPIFADR3 (io), 76 PC4/GPIFADR4 (io), 77 PC5/GPIFADR5 (io), 78 PC6/GPIFADR6 (io), 79 PC7/GPIFADR7 (io), 82 PA0/~{INT}0 (io), 83 PA1/~{INT}1 (io), 84 PA2/SLOE (io), 85 PA3/WU2 (io), 86 D5 (io), 87 D6 (io), 88 D7 (io), 89 PA4/FIFOADR0 (io), 90 PA5/FIFOADR1 (io), 91 PA6/PKTEND (io), 92 PA7/FLAGD/SL~{CS} (io), 94 A0 (out), 95 A1 (out), 96 A2 (out), 97 A3 (out), 98 CTL5 (out), 99 ~{RESE}T (in), 101 WAKEUP (in), 102 PD0/FD[8] (io), 103 PD1/FD[9] (io), 104 PD2/FD[10] (io), 105 PD3/FD[11] (io), 106 ~{INT}5 (in), 108 PE0/T0OUT (io), 109 PE1/T1OUT (io), 110 PE2/T2OUT (io), 111 PE3/RXD0OUT (io), 112 PE4/RXD1OUT (io), 113 PE5/INT6 (io), 114 PE6/T2EX (io), 115 PE7/GPIFADR8 (io), 117 A4 (out), 118 A5 (out), 119 A6 (out), 120 A7 (out), 121 PD4/FD[12] (io), 122 PD5/FD[13] (io), 123 PD6/FD[14] (io), 124 PD7/FD[15] (io), 126 A8 (out), 127 A9 (out), 128 A10 (out)
part B pins: 2 VCC (power), 3 GND (power), 10 AVCC (power), 13 AGND (power), 14 NC, 15 NC, 16 NC, 17 AVCC (power), 20 AGND (power), 26 VCC (power), 27 GND (power), 33 Reserved (in), 43 VCC (power), 48 VCC (power), 49 GND (power), 58 GND (power), 64 VCC (power), 65 GND (power), 68 VCC (power), 80 GND (power), 81 VCC (power), 93 GND (power), 100 VCC (power), 107 VCC (power), 116 GND (power), 125 GND (power)